# Altium schematic symbol library eUSR_SchLibrary - Capacitors.SchLib: 2 symbols
Pins are listed as number, name and electrical type; pins without a type are passive.

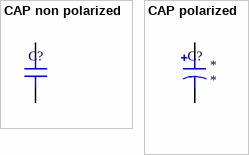
[diagram p0: symbols CAP non polarized to CAP polarized]

## CAP non polarized
designator C?  (value not drawn)
ComponentLink1Description: Datasheet; ComponentLink2Description: Distributor Link
pins: 1, 2

## CAP polarized
designator C?
ComponentLink1Description: Datasheet; ComponentLink2Description: Distributor Link; Package: *; Value: *
pins: N, P